# Altium footprint library QFP_Thin_Sq_80P_Side_M.PcbLib: 8 footprints
Each footprint in its own frame and in the unit in brackets; x right, y up, seen from the top. Pads: shape width x height; smd on the part's side, far side on the other; paste and mask are expansions set on the pad; w line width, h text height; cw(c..) or ccw(c..) is an arc to the next point about the centre after c.
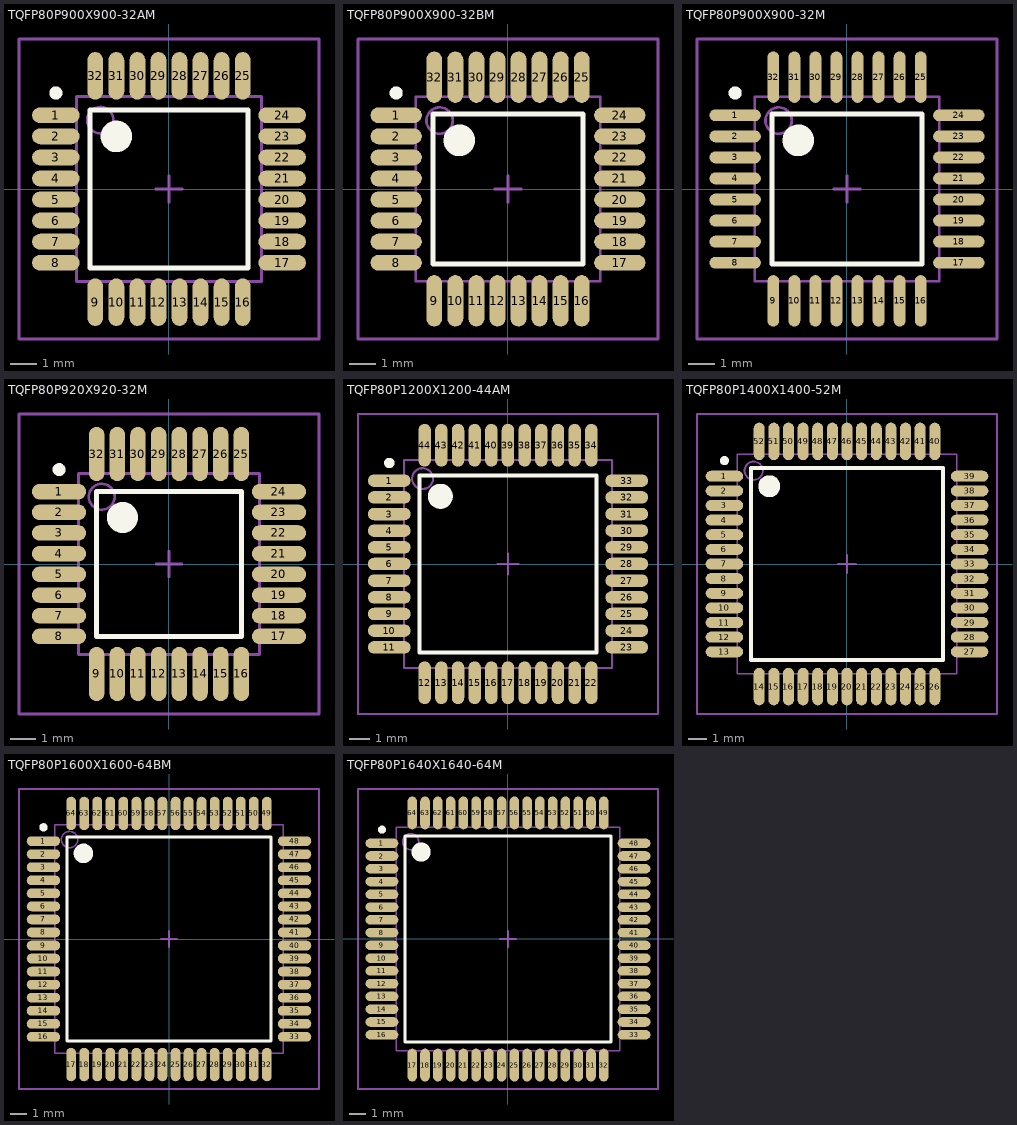
[diagram p0: the footprints below, top view; thin cyan lines are the x and y axes]

## TQFP80P900X900-32AM [mm] "Thin QFP, 32-Leads, Body 7x7mm, Pitch 0.8mm, IPC Low Density"
height 1.6
pads (32):
  oval 1.8x0.6 smd: 1(-4.3,2.8) 2(-4.3,2) 3(-4.3,1.2) 4(-4.3,0.4) 5(-4.3,-0.4) 6(-4.3,-1.2) 7(-4.3,-2) 8(-4.3,-2.8) 17(4.3,-2.8) 18(4.3,-2) 19(4.3,-1.2) 20(4.3,-0.4) 21(4.3,0.4) 22(4.3,1.2) 23(4.3,2) 24(4.3,2.8)
  oval 0.6x1.8 smd: 9(-2.8,-4.3) 10(-2,-4.3) 11(-1.2,-4.3) 12(-0.4,-4.3) 13(0.4,-4.3) 14(1.2,-4.3) 15(2,-4.3) 16(2.8,-4.3) 25(2.8,4.3) 26(2,4.3) 27(1.2,4.3) 28(0.4,4.3) 29(-0.4,4.3) 30(-1.2,4.3) 31(-2,4.3) 32(-2.8,4.3)
Top Overlay:
  circle w0.25: c-4.3,3.65 r0.125
  circle w0.6: c-2,2 r0.3
  lines w0.2: -3,-3 -3,3 3,3 3,-3 -3,-3
Mechanical 13:
  circle w0.1: c-2.615,2.615 r0.5
  lines w0.1: -3.515,-3.515 -3.515,3.515 3.515,3.515 3.515,-3.515 -3.515,-3.515
Mechanical 15:
  lines w0.1: -0.5,0 0.5,0 ; 0,-0.5 0,0.5 ; -5.7,-5.7 -5.7,5.7 5.7,5.7 5.7,-5.7 -5.7,-5.7
3D body: height 1.6, standoff 0, extent -3.515,-3.515 3.515,3.515

## TQFP80P900X900-32BM [mm] "Thin QFP, 32-Leads, Body 7x7mm, Pitch 0.8mm, IPC Low Density"
height 1.2
pads (32):
  oval 1.95x0.6 smd: 1(-4.25,2.8) 2(-4.25,2) 3(-4.25,1.2) 4(-4.25,0.4) 5(-4.25,-0.4) 6(-4.25,-1.2) 7(-4.25,-2) 8(-4.25,-2.8) 17(4.25,-2.8) 18(4.25,-2) 19(4.25,-1.2) 20(4.25,-0.4) 21(4.25,0.4) 22(4.25,1.2) 23(4.25,2) 24(4.25,2.8)
  oval 0.6x1.95 smd: 9(-2.8,-4.25) 10(-2,-4.25) 11(-1.2,-4.25) 12(-0.4,-4.25) 13(0.4,-4.25) 14(1.2,-4.25) 15(2,-4.25) 16(2.8,-4.25) 25(2.8,4.25) 26(2,4.25) 27(1.2,4.25) 28(0.4,4.25) 29(-0.4,4.25) 30(-1.2,4.25) 31(-2,4.25) 32(-2.8,4.25)
Top Overlay:
  circle w0.6: c-1.85,1.85 r0.3
  circle w0.25: c-4.25,3.65 r0.125
  lines w0.2: -2.85,-2.85 2.85,-2.85 2.85,2.85 -2.85,2.85 -2.85,-2.85
Mechanical 13:
  circle w0.1: c-2.6,2.6 r0.5
  lines w0.1: -3.5,-3.5 3.5,-3.5 3.5,3.5 -3.5,3.5 -3.5,-3.5
Mechanical 15:
  lines w0.1: -0.5,0 0.5,0 ; 0,-0.5 0,0.5 ; -5.7,-5.7 5.7,-5.7 5.7,5.7 -5.7,5.7 -5.7,-5.7
3D body: height 1.2, standoff 0, extent -3.5,-3.5 3.5,3.5

## TQFP80P900X900-32M [mm] "Thin QFP, 32-Leads, Body 7x7mm, Pitch 0.8mm, IPC Low Density"
height 1.6
pads (32):
  oval 1.95x0.45 smd: 1(-4.25,2.8) 2(-4.25,2) 3(-4.25,1.2) 4(-4.25,0.4) 5(-4.25,-0.4) 6(-4.25,-1.2) 7(-4.25,-2) 8(-4.25,-2.8) 17(4.25,-2.8) 18(4.25,-2) 19(4.25,-1.2) 20(4.25,-0.4) 21(4.25,0.4) 22(4.25,1.2) 23(4.25,2) 24(4.25,2.8)
  oval 0.45x1.95 smd: 9(-2.8,-4.25) 10(-2,-4.25) 11(-1.2,-4.25) 12(-0.4,-4.25) 13(0.4,-4.25) 14(1.2,-4.25) 15(2,-4.25) 16(2.8,-4.25) 25(2.8,4.25) 26(2,4.25) 27(1.2,4.25) 28(0.4,4.25) 29(-0.4,4.25) 30(-1.2,4.25) 31(-2,4.25) 32(-2.8,4.25)
Top Overlay:
  circle w0.6: c-1.85,1.85 r0.3
  circle w0.25: c-4.25,3.65 r0.125
  lines w0.2: -2.85,-2.85 2.85,-2.85 2.85,2.85 -2.85,2.85 -2.85,-2.85
Mechanical 13:
  circle w0.1: c-2.6,2.6 r0.5
  lines w0.1: -3.5,-3.5 3.5,-3.5 3.5,3.5 -3.5,3.5 -3.5,-3.5
Mechanical 15:
  lines w0.1: -0.5,0 0.5,0 ; 0,-0.5 0,0.5 ; -5.7,-5.7 5.7,-5.7 5.7,5.7 -5.7,5.7 -5.7,-5.7
3D body: height 1.2, standoff 0, extent -3.5,-3.5 3.5,3.5

## TQFP80P920X920-32M [mm] "Thin QFP, 32-Leads, Body 7x7mm, Pitch 0.8mm, IPC Low Density"
height 1.2
pads (32):
  oval 2.1x0.6 smd: 1(-4.25,2.8) 2(-4.25,2) 3(-4.25,1.2) 4(-4.25,0.4) 5(-4.25,-0.4) 6(-4.25,-1.2) 7(-4.25,-2) 8(-4.25,-2.8) 17(4.25,-2.8) 18(4.25,-2) 19(4.25,-1.2) 20(4.25,-0.4) 21(4.25,0.4) 22(4.25,1.2) 23(4.25,2) 24(4.25,2.8)
  oval 0.6x2.1 smd: 9(-2.8,-4.25) 10(-2,-4.25) 11(-1.2,-4.25) 12(-0.4,-4.25) 13(0.4,-4.25) 14(1.2,-4.25) 15(2,-4.25) 16(2.8,-4.25) 25(2.8,4.25) 26(2,4.25) 27(1.2,4.25) 28(0.4,4.25) 29(-0.4,4.25) 30(-1.2,4.25) 31(-2,4.25) 32(-2.8,4.25)
Top Overlay:
  circle w0.6: c-1.8,1.8 r0.3
  circle w0.25: c-4.25,3.65 r0.125
  lines w0.2: -2.8,-2.8 2.8,-2.8 2.8,2.8 -2.8,2.8 -2.8,-2.8
Mechanical 13:
  circle w0.1: c-2.6,2.6 r0.5
  lines w0.1: -3.5,-3.5 3.5,-3.5 3.5,3.5 -3.5,3.5 -3.5,-3.5
Mechanical 15:
  lines w0.1: -0.5,0 0.5,0 ; 0,-0.5 0,0.5 ; -5.8,-5.8 5.8,-5.8 5.8,5.8 -5.8,5.8 -5.8,-5.8
3D body: height 1.2, standoff 0, extent -3.5,-3.5 3.5,3.5

## TQFP80P1200X1200-44AM [mm] "Thin QFP, 44-Leads, Body 10x10mm, Pitch 0.8mm, IPC Low Density"
height 1.2
pads (44):
  oval 2.05x0.6 smd: 1(-5.7,4) 2(-5.7,3.2) 3(-5.7,2.4) 4(-5.7,1.6) 5(-5.7,0.8) 6(-5.7,0) 7(-5.7,-0.8) 8(-5.7,-1.6) 9(-5.7,-2.4) 10(-5.7,-3.2) 11(-5.7,-4) 23(5.7,-4) 24(5.7,-3.2) 25(5.7,-2.4) 26(5.7,-1.6) 27(5.7,-0.8) 28(5.7,0) 29(5.7,0.8) 30(5.7,1.6) 31(5.7,2.4) 32(5.7,3.2) 33(5.7,4)
  oval 0.6x2.05 smd: 12(-4,-5.7) 13(-3.2,-5.7) 14(-2.4,-5.7) 15(-1.6,-5.7) 16(-0.8,-5.7) 17(0,-5.7) 18(0.8,-5.7) 19(1.6,-5.7) 20(2.4,-5.7) 21(3.2,-5.7) 22(4,-5.7) 34(4,5.7) 35(3.2,5.7) 36(2.4,5.7) 37(1.6,5.7) 38(0.8,5.7) 39(0,5.7) 40(-0.8,5.7) 41(-1.6,5.7) 42(-2.4,5.7) 43(-3.2,5.7) 44(-4,5.7)
Top Overlay:
  circle w0.6: c-3.25,3.25 r0.3
  circle w0.25: c-5.7,4.85 r0.125
  lines w0.2: -4.25,-4.25 4.25,-4.25 4.25,4.25 -4.25,4.25 -4.25,-4.25
Mechanical 13:
  circle w0.1: c-4.1,4.1 r0.5
  lines w0.1: -5,-5 5,-5 5,5 -5,5 -5,-5
Mechanical 15:
  lines w0.1: -0.5,0 0.5,0 ; 0,-0.5 0,0.5 ; -7.2,-7.2 7.2,-7.2 7.2,7.2 -7.2,7.2 -7.2,-7.2
3D body: height 1.2, standoff 0, extent -5,-5 5,5

## TQFP80P1400X1400-52M [mm] "Thin QFP, 52-Leads, Body 12x12mm, Pitch 0.8mm, IPC Low Density"
height 1.2
pads (52):
  oval 2.05x0.6 smd: 1(-6.7,4.8) 2(-6.7,4) 3(-6.7,3.2) 4(-6.7,2.4) 5(-6.7,1.6) 6(-6.7,0.8) 7(-6.7,0) 8(-6.7,-0.8) 9(-6.7,-1.6) 10(-6.7,-2.4) 11(-6.7,-3.2) 12(-6.7,-4) 13(-6.7,-4.8) 27(6.7,-4.8) 28(6.7,-4) 29(6.7,-3.2) 30(6.7,-2.4) 31(6.7,-1.6) 32(6.7,-0.8) 33(6.7,0) 34(6.7,0.8) 35(6.7,1.6) 36(6.7,2.4) 37(6.7,3.2) 38(6.7,4) 39(6.7,4.8)
  oval 0.6x2.05 smd: 14(-4.8,-6.7) 15(-4,-6.7) 16(-3.2,-6.7) 17(-2.4,-6.7) 18(-1.6,-6.7) 19(-0.8,-6.7) 20(0,-6.7) 21(0.8,-6.7) 22(1.6,-6.7) 23(2.4,-6.7) 24(3.2,-6.7) 25(4,-6.7) 26(4.8,-6.7) 40(4.8,6.7) 41(4,6.7) 42(3.2,6.7) 43(2.4,6.7) 44(1.6,6.7) 45(0.8,6.7) 46(0,6.7) 47(-0.8,6.7) 48(-1.6,6.7) 49(-2.4,6.7) 50(-3.2,6.7) 51(-4,6.7) 52(-4.8,6.7)
Top Overlay:
  circle w0.6: c-4.25,4.25 r0.3
  circle w0.25: c-6.7,5.65 r0.125
  lines w0.2: -5.25,-5.25 5.25,-5.25 5.25,5.25 -5.25,5.25 -5.25,-5.25
Mechanical 13:
  circle w0.1: c-5.1,5.1 r0.5
  lines w0.1: -6,-6 6,-6 6,6 -6,6 -6,-6
Mechanical 15:
  lines w0.1: -0.5,0 0.5,0 ; 0,-0.5 0,0.5 ; -8.2,-8.2 8.2,-8.2 8.2,8.2 -8.2,8.2 -8.2,-8.2
3D body: height 1.2, standoff 0, extent -6,-6 6,6

## TQFP80P1600X1600-64BM [mm] "Thin QFP, 64-Leads, Body 14x14mm, Pitch 0.8mm, IPC Low Density"
height 1.6
pads (64):
  oval 2.05x0.6 smd: 1(-7.7,6) 2(-7.7,5.2) 3(-7.7,4.4) 4(-7.7,3.6) 5(-7.7,2.8) 6(-7.7,2) 7(-7.7,1.2) 8(-7.7,0.4) 9(-7.7,-0.4) 10(-7.7,-1.2) 11(-7.7,-2) 12(-7.7,-2.8) 13(-7.7,-3.6) 14(-7.7,-4.4) 15(-7.7,-5.2) 16(-7.7,-6) 33(7.7,-6) 34(7.7,-5.2) 35(7.7,-4.4) 36(7.7,-3.6) 37(7.7,-2.8) 38(7.7,-2) 39(7.7,-1.2) 40(7.7,-0.4) 41(7.7,0.4) 42(7.7,1.2) 43(7.7,2) 44(7.7,2.8) 45(7.7,3.6) 46(7.7,4.4) 47(7.7,5.2) 48(7.7,6)
  oval 0.6x2.05 smd: 17(-6,-7.7) 18(-5.2,-7.7) 19(-4.4,-7.7) 20(-3.6,-7.7) 21(-2.8,-7.7) 22(-2,-7.7) 23(-1.2,-7.7) 24(-0.4,-7.7) 25(0.4,-7.7) 26(1.2,-7.7) 27(2,-7.7) 28(2.8,-7.7) 29(3.6,-7.7) 30(4.4,-7.7) 31(5.2,-7.7) 32(6,-7.7) 49(6,7.7) 50(5.2,7.7) 51(4.4,7.7) 52(3.6,7.7) 53(2.8,7.7) 54(2,7.7) 55(1.2,7.7) 56(0.4,7.7) 57(-0.4,7.7) 58(-1.2,7.7) 59(-2,7.7) 60(-2.8,7.7) 61(-3.6,7.7) 62(-4.4,7.7) 63(-5.2,7.7) 64(-6,7.7)
Top Overlay:
  circle w0.6: c-5.25,5.25 r0.3
  circle w0.25: c-7.7,6.85 r0.125
  lines w0.2: -6.25,-6.25 6.25,-6.25 6.25,6.25 -6.25,6.25 -6.25,-6.25
Mechanical 13:
  circle w0.1: c-6.1,6.1 r0.5
  lines w0.1: -7,-7 7,-7 7,7 -7,7 -7,-7
Mechanical 15:
  lines w0.1: -0.5,0 0.5,0 ; 0,-0.5 0,0.5 ; -9.2,-9.2 9.2,-9.2 9.2,9.2 -9.2,9.2 -9.2,-9.2
3D body: height 1.6, standoff 0, extent -7,-7 7,7

## TQFP80P1640X1640-64M [mm] "Thin QFP, 64-Leads, Body 14x14mm, Pitch 0.8mm, IPC Low Density"
height 1.6
pads (64):
  oval 2.05x0.6 smd: 1(-7.9,6) 2(-7.9,5.2) 3(-7.9,4.4) 4(-7.9,3.6) 5(-7.9,2.8) 6(-7.9,2) 7(-7.9,1.2) 8(-7.9,0.4) 9(-7.9,-0.4) 10(-7.9,-1.2) 11(-7.9,-2) 12(-7.9,-2.8) 13(-7.9,-3.6) 14(-7.9,-4.4) 15(-7.9,-5.2) 16(-7.9,-6) 33(7.9,-6) 34(7.9,-5.2) 35(7.9,-4.4) 36(7.9,-3.6) 37(7.9,-2.8) 38(7.9,-2) 39(7.9,-1.2) 40(7.9,-0.4) 41(7.9,0.4) 42(7.9,1.2) 43(7.9,2) 44(7.9,2.8) 45(7.9,3.6) 46(7.9,4.4) 47(7.9,5.2) 48(7.9,6)
  oval 0.6x2.05 smd: 17(-6,-7.9) 18(-5.2,-7.9) 19(-4.4,-7.9) 20(-3.6,-7.9) 21(-2.8,-7.9) 22(-2,-7.9) 23(-1.2,-7.9) 24(-0.4,-7.9) 25(0.4,-7.9) 26(1.2,-7.9) 27(2,-7.9) 28(2.8,-7.9) 29(3.6,-7.9) 30(4.4,-7.9) 31(5.2,-7.9) 32(6,-7.9) 49(6,7.9) 50(5.2,7.9) 51(4.4,7.9) 52(3.6,7.9) 53(2.8,7.9) 54(2,7.9) 55(1.2,7.9) 56(0.4,7.9) 57(-0.4,7.9) 58(-1.2,7.9) 59(-2,7.9) 60(-2.8,7.9) 61(-3.6,7.9) 62(-4.4,7.9) 63(-5.2,7.9) 64(-6,7.9)
Top Overlay:
  circle w0.6: c-5.45,5.45 r0.3
  circle w0.25: c-7.9,6.85 r0.125
  lines w0.2: -6.45,-6.45 6.45,-6.45 6.45,6.45 -6.45,6.45 -6.45,-6.45
Mechanical 13:
  circle w0.1: c-6.1,6.1 r0.5
  lines w0.1: -7,-7 7,-7 7,7 -7,7 -7,-7
Mechanical 15:
  lines w0.1: -0.5,0 0.5,0 ; 0,-0.5 0,0.5 ; -9.4,-9.4 9.4,-9.4 9.4,9.4 -9.4,9.4 -9.4,-9.4
3D body: height 1.6, standoff 0, extent -7,-7 7,7